# Altium schematic symbol library TCA6408ARGTR.SchLib: 1 symbol
Pins are listed as number, name and electrical type; pins without a type are passive.

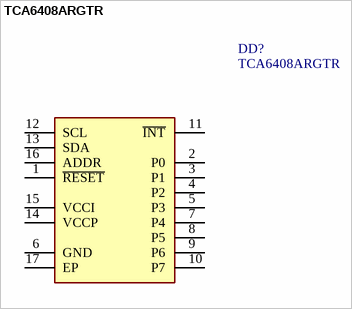
[diagram p0: symbol TCA6408ARGTR]

## TCA6408ARGTR
designator DD?
Integrated Circuit; Manufacturer_Name: Texas Instruments; Datasheet Link: https://www.ti.com/lit/ds/symlink/tca6408a.pdf?HQS=dis-dk-null-digikeymode-dsf-pf-null-wwe&ts=1650414321322&ref_url=https%253A%252F%252Fwww.ti.com%252Fgeneral%252Fdocs%252Fsuppproductinfo.tsp%253FdistId%253D10%2526gotoUrl%253Dhttps%253A%252F%252Fwww.ti.co; Height: 1mm; Manufacturer_Part_Number: TCA6408ARGTR; Mouser Part Number: 595-TCA6408ARGTR; Mouser Price/Stock: https://www.mouser.co.uk/ProductDetail/Texas-Instruments/TCA6408ARGTR?qs=I4smPnw5um2xBJN3iV2JIg%3D%3D; Arrow Part Number: TCA6408ARGTR; Arrow Price/Stock: https://www.arrow.com/en/products/tca6408argtr/texas-instruments?region=nac
footprint QFN50P300X300X100-17N-D
pins: 1 ~{RESET}, 2 P0, 3 P1, 4 P2, 5 P3, 6 GND, 7 P4, 8 P5, 9 P6, 10 P7, 11 ~{INT}, 12 SCL, 13 SDA, 14 VCCP, 15 VCCI, 16 ADDR, 17 EP